# EAGLE library part OV7690 (library IC)
OmniVision 1/13" CMOS VGA CameraChip sensor
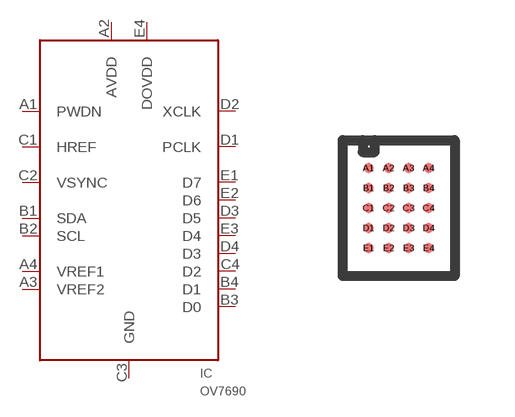
[diagram p174: symbol with the pads of CSP3; footprint CSP3]

Designator prefix IC

## OV7690  [CSP3]
A1  PWDN
A2  AVDD  pwr
A3  VREF2
A4  VREF1
B1  SDA
B2  SCL
B3  D0
B4  D1
C1  HREF
C2  VSYNC
C3  GND  pwr
C4  D2
D1  PCLK
D2  XCLK
D3  D5
D4  D3
E1  D7
E2  D6
E3  D4
E4  DOVDD  pwr

## Footprint CSP3 (pad centres in mm)
OmniVision 20-pin CSP3 package
smd 0.25 x 0.25: A1 -0.75,1; A2 -0.25,1; A3 0.25,1; A4 0.75,1; B1 -0.75,0.5; B2 -0.25,0.5; B3 0.25,0.5; B4 0.75,0.5; C1 -0.75,0; C2 -0.25,0; C3 0.25,0; C4 0.75,0; D1 -0.75,-0.5; D2 -0.25,-0.5; D3 0.25,-0.5; D4 0.75,-0.5; E1 -0.75,-1; E2 -0.25,-1; E3 0.25,-1; E4 0.75,-1